# Altium footprint library конденсаторы.PcbLib: 26 footprints (part 2 of 2)
Each footprint in its own frame and in the unit in brackets; x right, y up, seen from the top. Pads: shape width x height; smd on the part's side, far side on the other; paste and mask are expansions set on the pad; w line width, h text height; cw(c..) or ccw(c..) is an arc to the next point about the centre after c.
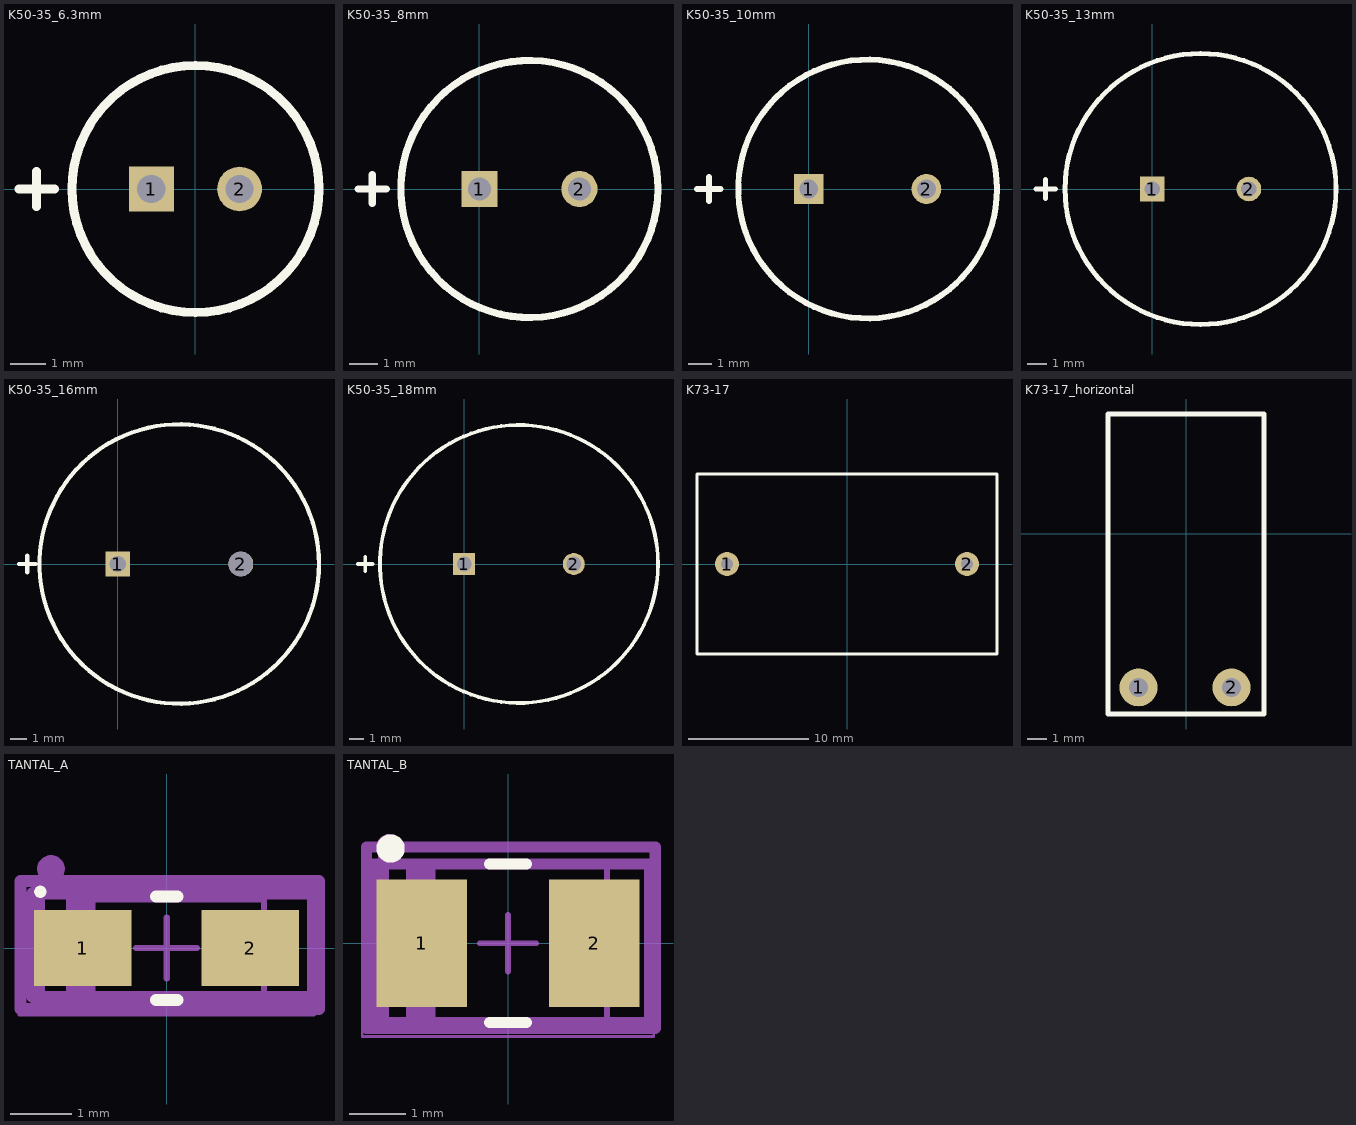
[diagram p1: the footprints below, top view; thin cyan lines are the x and y axes]

## K50-35_6.3mm [mm]
pads (2):
  rect 1.27x1.27 hole 0.8: 1(-1.25,0)
  round 1.27 hole 0.8: 2(1.25,0)
Top Overlay:
  circle w0.254: c0,0 r3.5
  lines w0.254: -5,0 -4,0 ; -4.5,-0.5 -4.5,0.5
3D body "Cap electrolitic radial 6,3x12.STEP": height 12.8, standoff -0.7, extent -3.149,-3.149 3.149,3.15

## K50-35_8mm [mm]
pads (2):
  rect 1.27x1.27 hole 0.8: 1(0,0)
  round 1.27 hole 0.8: 2(3.5,0)
Top Overlay:
  circle w0.254: c1.75,0 r4.5
  lines w0.254: -4.25,0 -3.25,0 ; -3.75,-0.5 -3.75,0.5

## K50-35_10mm [mm]
pads (2):
  rect 1.27x1.27 hole 0.8: 1(0,0)
  round 1.27 hole 0.8: 2(5,0)
Top Overlay:
  circle w0.254: c2.5,0 r5.5
  lines w0.254: -4.75,0 -3.75,0 ; -4.25,-0.5 -4.25,0.5

## K50-35_13mm [mm]
pads (2):
  rect 1.27x1.27 hole 0.8: 1(0,0)
  round 1.27 hole 0.8: 2(5,0)
Top Overlay:
  circle w0.254: c2.5,0 r7
  lines w0.254: -6,0 -5,0 ; -5.5,-0.5 -5.5,0.5

## K50-35_16mm [mm]
pads (2):
  rect 1.5x1.5 hole 1: 1(0,0)
  round 1.5 hole 1.5: 2(7.5,0)
Top Overlay:
  circle w0.254: c3.75,0 r8.5
  lines w0.254: -6,0 -5,0 ; -5.5,-0.5 -5.5,0.5

## K50-35_18mm [mm]
pads (2):
  rect 1.5x1.5 hole 1: 1(0,0)
  round 1.5 hole 1: 2(7.5,0)
Top Overlay:
  circle w0.254: c3.75,0 r9.5
  lines w0.254: -7.25,0 -6.25,0 ; -6.75,-0.5 -6.75,0.5

## K73-17 [mm]
pads (2):
  round 2 hole 1: 1(-10,0) 2(10,0)
Top Overlay:
  lines w0.254: -12.5,-7.5 -12.5,7.5 12.5,7.5 12.5,-7.5 -12.5,-7.5
3D body "K73-17-1.step": height 31, standoff -2, extent -12,-7 12,7

## K73-17_horizontal [mm]
pads (2):
  round 2 hole 1: 1(-2.5,-8.1) 2(2.4,-8.1)
Top Overlay:
  lines w0.254: -4.1,-9.5 -4.1,6.3 4.1,6.3 4.1,-9.5 -4.1,-9.5
3D body "2J103J114CL003.STEP": height 4, standoff -0.5, extent -3.85,-8.25 3.85,6

## TANTAL_A [mm]
pads (2):
  rect 1.6x1.25 smd: 1(-1.375,0) 2(1.375,0)
Top Overlay:
  circle w0.1: c-2.075,0.925 r0.05
  lines w0.2: -0.175,-0.85 0.175,-0.85 ; -0.175,0.85 0.175,0.85
ASSEMBLY_TOP:
  lines w0.2: -2.1,-1 -2.1,1.1 ; -2.4,-1 -2.4,1.1 2.5,1.1 2.5,-1 -2.4,-1
  text ".Designator" at -2,-0.6 h1.52
Mechanical 13:
  rectangle: -1.6,-0.8 -1.17,0.8
  lines w0.1: -1.6,-0.8 -1.6,0.8 1.6,0.8 1.6,-0.8 -1.6,-0.8
Mechanical 15:
  lines w0.05: -2.425,-1.1 -2.425,1.1 2.425,1.1 2.425,-1.1 -2.425,-1.1
  lines w0.1: -0.5,0 0.5,0 ; 0,-0.5 0,0.5
Маркировка сборки:
  circle w0.254: c-1.9,1.3 r0.1
  lines w0.2: -2.2,-0.8 2.4,-0.8 2.4,0.9 -2.2,0.9 -2.2,-0.8
  text "'.Designator'" at -2.2,-0.4 h1.52
3D body "A.step": height 1.65, standoff -0.01, extent -1.752,-0.8 1.712,0.8

## TANTAL_B [mm]
height 1.9
pads (2):
  rect 1.6x2.25 smd: 1(-1.525,0) 2(1.525,0)
Top Overlay:
  circle w0.25: c-2.075,1.675 r0.125
  lines w0.2: -0.325,-1.4 0.325,-1.4 ; -0.325,1.4 0.325,1.4
ASSEMBLY_TOP:
  lines w0.2: -2.2,-1.5 -2.2,1.7 ; -2.5,-1.5 -2.5,1.7 2.6,1.7 2.6,-1.5 -2.5,-1.5
  text ".Designator" at -2.1,-0.3 h1.52
Mechanical 13:
  rectangle: -1.75,-1.4 -1.279,1.4
  lines w0.1: -1.75,-1.4 1.75,-1.4 1.75,1.4 -1.75,1.4 -1.75,-1.4
Mechanical 15:
  lines w0.05: -2.575,-1.65 2.575,-1.65 2.575,1.65 -2.575,1.65 -2.575,-1.65
  lines w0.1: -0.5,0 0.5,0 ; 0,-0.5 0,0.5
Маркировка сборки:
  circle w0.254: c-2.1,1.7 r0.1
  lines w0.2: -2.4,-1.4 2.5,-1.4 2.5,1.4 -2.4,1.4 -2.4,-1.4
  text "'.Designator'" at -2.4,-0.3 h1.52
3D body "B.STEP": height 2.11, standoff -0.04, extent -2.499,-1.524 2.499,1.473